# Altium schematic symbol library SRN5020TA-6R8M.SchLib: 1 symbol
Pins are listed as number, name and electrical type; pins without a type are passive.

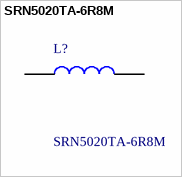
[diagram p0: symbol SRN5020TA-6R8M]

## SRN5020TA-6R8M
designator L?
Fixed Inductors 6.8uH 20% 1.9A; Manufacturer_Name: Bourns; Geometry.Height: 2mm; Mouser Part Number: 652-SRN5020TA-6R8M; Mouser Price/Stock: https://www.mouser.co.uk/ProductDetail/Bourns/SRN5020TA-6R8M?qs=qSfuJ%252Bfl%2Fd6It%252BxmVgjRHA%3D%3D; Manufacturer_Part_Number: SRN5020TA-6R8M; Datasheet Link: https://componentsearchengine.com/Datasheets/1/SRN5020TA-6R8M.pdf
footprint INDPM5050X200N
pins: 1, 2